# Altium schematic symbol library 476420001.SchLib: 2 symbols
Pins are listed as number, name and electrical type; pins without a type are passive.

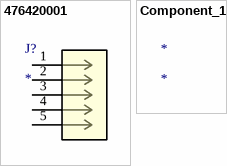
[diagram p0: symbols 476420001 to Component_1]

## 476420001
designator J?
No Description Available; Mfr_Name: Molex Connector Corporation; RefDes: RefDes; Type: Type
footprint CONN_47642-0001_MOL
pins: 1, 2, 3, 4, 5

## Component_1
designator *